# Altium integrated library 54-00125.IntLib: 1 symbol
Pins are listed as number, name and electrical type; pins without a type are passive.

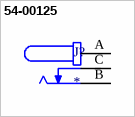
[diagram p0: symbol 54-00125]

## 54-00125
designator J?
Power Barrel Connector Jack 1.10mm ID (0.043), 3.50mm OD (0.138) Through Hole, Right Angle; MF: Tensility International Corp; MP: 54-00125; Package: None; Price: None; Check_prices: https://www.snapeda.com/parts/54-00125/Tensility+International+Corp/view-part/?ref=eda; Value: *; SnapEDA_Link: https://www.snapeda.com/parts/54-00125/Tensility+International+Corp/view-part/?ref=snap; Availability: In Stock; Purchase-URL: https://pricing.snapeda.com/search?q=54-00125&ref=eda
footprint TENSILITY_54-00125
pins: A, B, C